# Altium schematic symbol library OV7670.SchLib: 1 symbol
Pins are listed as number, name and electrical type; pins without a type are passive.

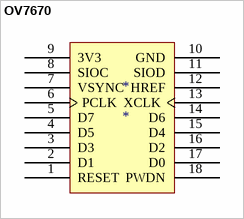
[diagram p0: symbol OV7670]

## OV7670
designator *
OV7670
footprint OV7670
pins: 1 RESET, 2 D1, 3 D3, 4 D5, 5 D7, 6 PCLK, 7 VSYNC, 8 SIOC, 9 3V3, 10 GND, 11 SIOD, 12 HREF, 13 XCLK, 14 D6, 15 D4, 16 D2, 17 D0, 18 PWDN